# EAGLE library part BOSH-BME280 (library G1Tech-Sensors)
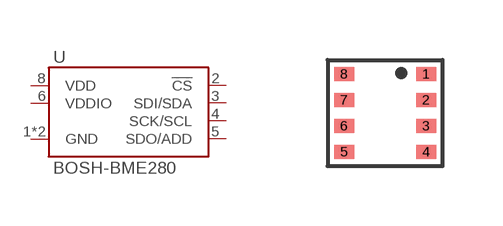
[diagram p1: symbol with the pads of LGA-2.5X2.5; footprint LGA-2.5X2.5]

Designator prefix U

## BOSH-BME280  [LGA-2.5X2.5]
1  GND
2  !CS
3  SDI/SDA
4  SCK/SCL
5  SDO/ADD
6  VDDIO
7  GND
8  VDD

## Footprint LGA-2.5X2.5 (pad centres in mm)
https://ae-bst.resource.bosch.com/media/_tech/media/datasheets/BST-BME280-DS002.pdf
smd 0.5 x 0.35: 1 1.025,0.975; 2 1.025,0.325; 3 1.025,-0.325; 4 1.025,-0.975; 5 -1.025,-0.975; 6 -1.025,-0.325; 7 -1.025,0.325; 8 -1.025,0.975